# EAGLE library part DIN5P270 (library Stecker_Pins)
Din-Stecker, 5pol, 270°
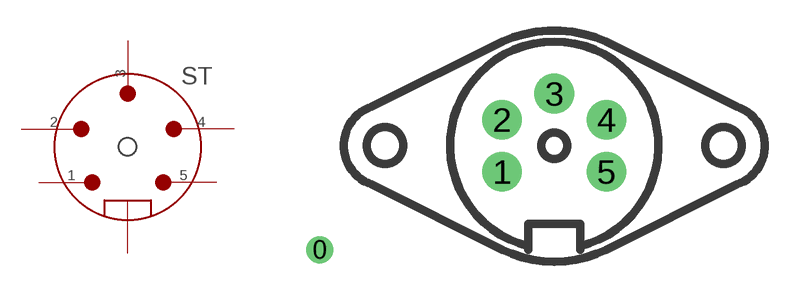
[diagram p5: symbol with the pads of DIN5P270; footprint DIN5P270]

Designator prefix ST

## DIN5P270  [DIN5P270]
0  0  nc
1  1  nc
2  2  nc
3  3  nc
4  4  nc
5  5  nc

## Footprint DIN5P270 (pad centres in mm)
drill 0.813 pad 0.61: 0 -5.08,2.54
drill 0.8 pad 1.93: 1 3.81,6.35; 2 3.81,8.89; 3 6.35,10.16; 4 8.89,8.89; 5 8.89,6.35